# Altium footprint library Robsense_PCBLib.PcbLib: 82 footprints (part 3 of 6)
Each footprint in its own frame and in the unit in brackets; x right, y up, seen from the top. Pads: shape width x height; smd on the part's side, far side on the other; paste and mask are expansions set on the pad; w line width, h text height; cw(c..) or ccw(c..) is an arc to the next point about the centre after c.
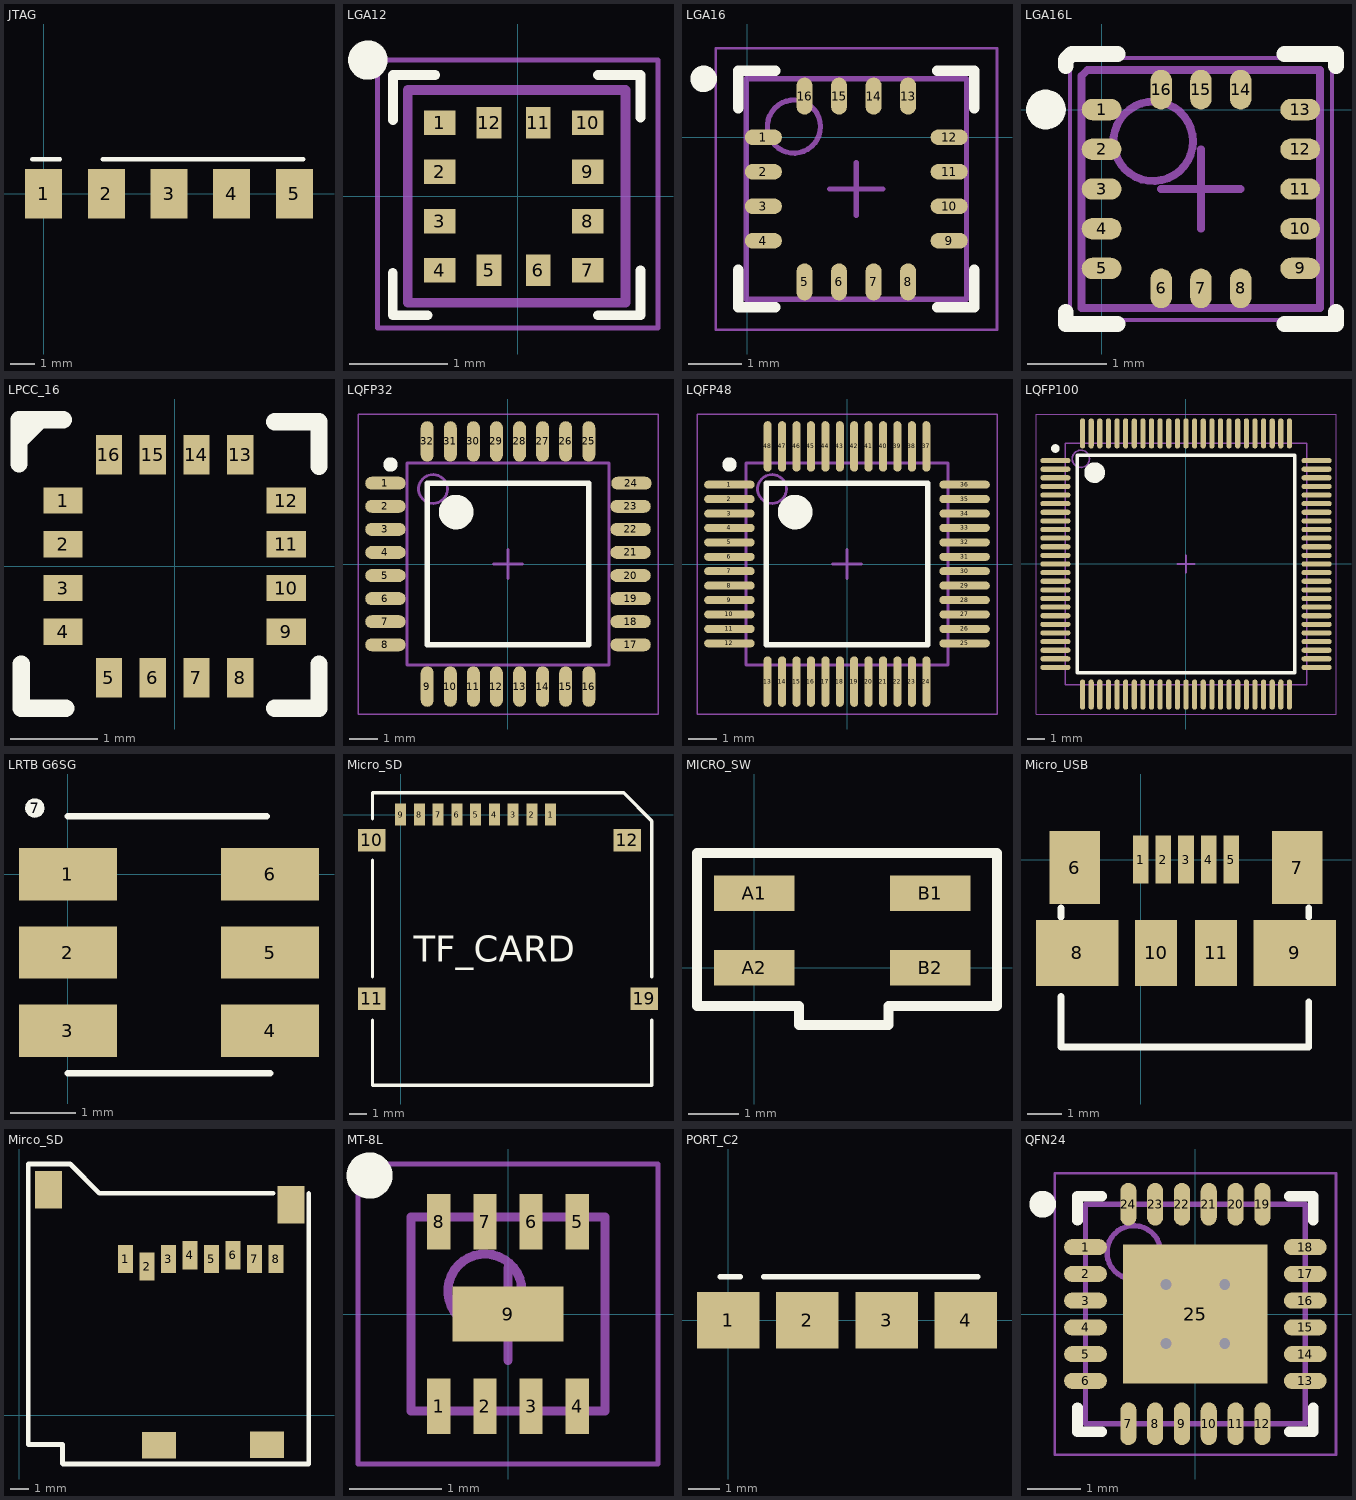
[diagram p2: the footprints below, top view; thin cyan lines are the x and y axes]

## JTAG [mm]
pads (5):
  rect 1.5x2 smd mask+0.08: 1(0,0) 2(2.54,0) 3(5.08,0) 4(7.62,0) 5(10.16,0)
Top Overlay:
  lines w0.178: -0.457,1.397 0.66,1.397 ; 2.388,1.397 10.516,1.397

## LGA12 [mm]
pads (12):
  rect 0.32x0.25 smd mask+0.08: 1(-0.792,0.749) 2(-0.792,0.249) 3(-0.792,-0.251) 4(-0.792,-0.751) 7(0.708,-0.751) 8(0.708,-0.251) 9(0.708,0.249) 10(0.708,0.749)
  rect 0.25x0.32 smd mask+0.08: 5(-0.292,-0.751) 6(0.208,-0.751) 11(0.208,0.749) 12(-0.292,0.749)
Top Overlay:
  circle w0.2: c-1.522,1.384 r0.1
  lines w0.1: -1.27,-0.775 -1.27,-1.206 -0.914,-1.206 ; -1.267,0.775 -1.267,1.232 -0.838,1.232 ; 0.813,-1.206 1.245,-1.206 1.245,-0.749 ; 0.813,1.232 1.245,1.232 1.245,0.8
Mechanical 13:
  lines w0.1: -1.117,-1.079 -1.117,1.08 1.092,1.08 1.092,-1.079 -1.117,-1.079
Mechanical 15:
  lines w0.05: -1.422,-1.333 -1.422,1.384 1.422,1.384 1.422,-1.333 -1.422,-1.333
3D body: height 1, standoff 0.2, extent -1.105,-1.105 1.105,1.054

## LGA16 [mm] "QFN, 16-Leads, Body 4.00x4.00mm, Pitch 0.65mm, IPC Medium Density"
height 1
pads (16):
  oval 0.7x0.3 smd mask+0.08: 1(0.3,0) 2(0.3,-0.65) 3(0.3,-1.3) 4(0.3,-1.95) 9(3.8,-1.95) 10(3.8,-1.3) 11(3.8,-0.65) 12(3.8,0)
  oval 0.3x0.7 smd mask+0.08: 5(1.075,-2.725) 6(1.725,-2.725) 7(2.375,-2.725) 8(3.025,-2.725) 13(3.025,0.775) 14(2.375,0.775) 15(1.725,0.775) 16(1.075,0.775)
Top Overlay:
  circle w0.25: c-0.825,1.1 r0.125
  lines w0.2: -0.175,-2.5 -0.175,-3.2 0.525,-3.2 ; -0.175,0.55 -0.175,1.25 0.525,1.25 ; 3.575,-3.2 4.275,-3.2 4.275,-2.5 ; 3.575,1.25 4.275,1.25 4.275,0.55
Mechanical 13:
  circle w0.1: c0.875,0.2 r0.5
  lines w0.1: -0.025,-3.05 -0.025,1.1 4.125,1.1 4.125,-3.05 -0.025,-3.05
Mechanical 15:
  lines w0.05: -0.6,-3.625 -0.6,1.675 4.7,1.675 4.7,-3.625 -0.6,-3.625
  lines w0.1: 1.55,-0.975 2.55,-0.975 ; 2.05,-1.475 2.05,-0.475
3D body: height 1, standoff 0.2, extent -0.025,-3.05 4.125,1.1

## LGA16L [mm] "LCC, 16-Pins, Body 3.00x3.00mmx1.00mm, Pitch 0.50mm, IPC Medium Density"
height 1
pads (16):
  oval 0.5x0.27 smd mask+0.08: 1(0,0) 2(0,-0.5) 3(0,-1) 4(0,-1.5) 5(0,-2) 9(2.5,-2) 10(2.5,-1.5) 11(2.5,-1) 12(2.5,-0.5) 13(2.5,0)
  oval 0.27x0.5 smd mask+0.08: 6(0.75,-2.25) 7(1.25,-2.25) 8(1.75,-2.25) 14(1.75,0.25) 15(1.25,0.25) 16(0.75,0.25)
Top Overlay:
  circle w0.25: c-0.7,0 r0.125
  lines w0.2: -0.45,-2.55 -0.45,-2.7 0.2,-2.7 ; -0.45,0.55 -0.45,0.625 -0.375,0.7 0.2,0.7 ; 2.3,-2.7 2.95,-2.7 2.95,-2.55 ; 2.3,0.7 2.95,0.7 2.95,0.55
Mechanical 13:
  circle w0.1: c0.65,-0.4 r0.5
  lines w0.1: -0.25,-2.5 2.75,-2.5 2.75,0.5 -0.175,0.5 -0.25,0.425 -0.25,-2.5
Mechanical 15:
  lines w0.05: -0.4,-2.65 2.9,-2.65 2.9,0.65 -0.4,0.65 -0.4,-2.65
  lines w0.1: 0.75,-1 1.75,-1 ; 1.25,-1.5 1.25,-0.5
3D body: height 1, standoff 0, extent -0.25,-2.5 2.75,0.5

## LPCC_16 [mm]
pads (16):
  rect 0.45x0.3 smd mask+0.08: 1(-1.275,0.75) 2(-1.275,0.25) 3(-1.275,-0.25) 4(-1.275,-0.75) 9(1.275,-0.75) 10(1.275,-0.25) 11(1.275,0.25) 12(1.275,0.75)
  rect 0.3x0.45 smd mask+0.08: 5(-0.75,-1.275) 6(-0.25,-1.275) 7(0.25,-1.275) 8(0.75,-1.275) 13(0.75,1.275) 14(0.25,1.275) 15(-0.25,1.275) 16(-0.75,1.275)
Top Overlay:
  lines w0.15: -1.753,1.422 -1.524,1.651 -1.524,1.676
  lines w0.2: -1.778,1.168 -1.778,1.676 -1.27,1.676 ; -1.753,-1.118 -1.753,-1.626 -1.245,-1.626 ; 1.143,-1.626 1.651,-1.626 1.651,-1.118 ; 1.143,1.651 1.651,1.651 1.651,1.143

## LQFP32 [mm]
pads (32):
  oval 1.4x0.45 smd mask+0.08: 1(-4.25,2.8) 2(-4.25,2) 3(-4.25,1.2) 4(-4.25,0.4) 5(-4.25,-0.4) 6(-4.25,-1.2) 7(-4.25,-2) 8(-4.25,-2.8) 17(4.25,-2.8) 18(4.25,-2) 19(4.25,-1.2) 20(4.25,-0.4) 21(4.25,0.4) 22(4.25,1.2) 23(4.25,2) 24(4.28,2.8)
  oval 0.45x1.4 smd mask+0.08: 9(-2.8,-4.25) 10(-2,-4.25) 11(-1.2,-4.25) 12(-0.4,-4.25) 13(0.4,-4.25) 14(1.2,-4.25) 15(2,-4.25) 16(2.8,-4.25) 25(2.8,4.25) 26(2,4.25) 27(1.2,4.25) 28(0.4,4.25) 29(-0.4,4.25) 30(-1.2,4.25) 31(-2,4.25) 32(-2.8,4.25)
Top Overlay:
  circle w0.6: c-1.8,1.8 r0.3
  circle w0.25: c-4.075,3.45 r0.125
  lines w0.2: -2.8,-2.8 2.8,-2.8 2.8,2.8 -2.8,2.8 -2.8,-2.8
Mechanical 13:
  circle w0.1: c-2.6,2.6 r0.5
  lines w0.1: -3.5,-3.5 3.5,-3.5 3.5,3.5 -3.5,3.5 -3.5,-3.5
Mechanical 15:
  lines w0.05: -5.2,-5.2 5.2,-5.2 5.2,5.2 -5.2,5.2 -5.2,-5.2
  lines w0.1: -0.5,0 0.5,0 ; 0,-0.5 0,0.5
3D body: height 1.5, standoff 0.1, extent -3.5,-3.5 3.5,3.5

## LQFP48 [mm] "TSQFP, 48-Leads, Body 7.00x7.00mm, Pitch 0.50mm, IPC Medium Density"
height 1.5
pads (48):
  oval 1.75x0.28 smd mask+0.08: 1(-4.075,2.75) 2(-4.075,2.25) 3(-4.075,1.75) 4(-4.075,1.25) 5(-4.075,0.75) 6(-4.075,0.25) 7(-4.075,-0.25) 8(-4.075,-0.75) 9(-4.075,-1.25) 10(-4.075,-1.75) 11(-4.075,-2.25) 12(-4.075,-2.75) 25(4.075,-2.75) 26(4.075,-2.25) 27(4.075,-1.75) 28(4.075,-1.25) 29(4.075,-0.75) 30(4.075,-0.25) 31(4.075,0.25) 32(4.075,0.75) 33(4.075,1.25) 34(4.075,1.75) 35(4.075,2.25) 36(4.075,2.75)
  oval 0.28x1.75 smd mask+0.08: 13(-2.75,-4.075) 14(-2.25,-4.075) 15(-1.75,-4.075) 16(-1.25,-4.075) 17(-0.75,-4.075) 18(-0.25,-4.075) 19(0.25,-4.075) 20(0.75,-4.075) 21(1.25,-4.075) 22(1.75,-4.075) 23(2.25,-4.075) 24(2.75,-4.075) 37(2.75,4.075) 38(2.25,4.075) 39(1.75,4.075) 40(1.25,4.075) 41(0.75,4.075) 42(0.25,4.075) 43(-0.25,4.075) 44(-0.75,4.075) 45(-1.25,4.075) 46(-1.75,4.075) 47(-2.25,4.075) 48(-2.75,4.075)
Top Overlay:
  circle w0.6: c-1.8,1.8 r0.3
  circle w0.25: c-4.075,3.45 r0.125
  lines w0.2: -2.8,-2.8 2.8,-2.8 2.8,2.8 -2.8,2.8 -2.8,-2.8
Mechanical 13:
  circle w0.1: c-2.6,2.6 r0.5
  lines w0.1: -3.5,-3.5 3.5,-3.5 3.5,3.5 -3.5,3.5 -3.5,-3.5
Mechanical 15:
  lines w0.05: -5.2,-5.2 5.2,-5.2 5.2,5.2 -5.2,5.2 -5.2,-5.2
  lines w0.1: -0.5,0 0.5,0 ; 0,-0.5 0,0.5
3D body: height 1.5, standoff 0.1, extent -3.5,-3.5 3.5,3.5

## LQFP100 [mm] "TSQFP, 100-Leads, Body 14.00x14.00mm, Pitch 0.50mm, IPC Medium Density"
height 1.6
pads (100):
  oval 1.75x0.3 smd mask+0.08: 1(-7.575,6) 2(-7.575,5.5) 3(-7.575,5) 4(-7.575,4.5) 5(-7.575,4) 6(-7.575,3.5) 7(-7.575,3) 8(-7.575,2.5) 9(-7.575,2) 10(-7.575,1.5) 11(-7.575,1) 12(-7.575,0.5) 13(-7.575,0) 14(-7.575,-0.5) 15(-7.575,-1) 16(-7.575,-1.5) 17(-7.575,-2) 18(-7.575,-2.5) 19(-7.575,-3) 20(-7.575,-3.5) 21(-7.575,-4) 22(-7.575,-4.5) 23(-7.575,-5) 24(-7.575,-5.5) 25(-7.575,-6) 51(7.575,-6) 52(7.575,-5.5) 53(7.575,-5) 54(7.575,-4.5) 55(7.575,-4) 56(7.575,-3.5) 57(7.575,-3) 58(7.575,-2.5) 59(7.575,-2) 60(7.575,-1.5) 61(7.575,-1) 62(7.575,-0.5) 63(7.575,0) 64(7.575,0.5) 65(7.575,1) 66(7.575,1.5) 67(7.575,2) 68(7.575,2.5) 69(7.575,3) 70(7.575,3.5) 71(7.575,4) 72(7.575,4.5) 73(7.575,5) 74(7.575,5.5) 75(7.575,6)
  oval 0.3x1.75 smd mask+0.08: 26(-6,-7.575) 27(-5.5,-7.575) 28(-5,-7.575) 29(-4.5,-7.575) 30(-4,-7.575) 31(-3.5,-7.575) 32(-3,-7.575) 33(-2.5,-7.575) 34(-2,-7.575) 35(-1.5,-7.575) 36(-1,-7.575) 37(-0.5,-7.575) 38(0,-7.575) 39(0.5,-7.575) 40(1,-7.575) 41(1.5,-7.575) 42(2,-7.575) 43(2.5,-7.575) 44(3,-7.575) 45(3.5,-7.575) 46(4,-7.575) 47(4.5,-7.575) 48(5,-7.575) 49(5.5,-7.575) 50(6,-7.575) 76(6,7.575) 77(5.5,7.575) 78(5,7.575) 79(4.5,7.575) 80(4,7.575) 81(3.5,7.575) 82(3,7.575) 83(2.5,7.575) 84(2,7.575) 85(1.5,7.575) 86(1,7.575) 87(0.5,7.575) 88(0,7.575) 89(-0.5,7.575) 90(-1,7.575) 91(-1.5,7.575) 92(-2,7.575) 93(-2.5,7.575) 94(-3,7.575) 95(-3.5,7.575) 96(-4,7.575) 97(-4.5,7.575) 98(-5,7.575) 99(-5.5,7.575) 100(-6,7.575)
Top Overlay:
  circle w0.25: c-7.575,6.7 r0.125
  circle w0.6: c-5.3,5.3 r0.3
  lines w0.2: -6.3,-6.3 -6.3,6.3 6.3,6.3 6.3,-6.3 -6.3,-6.3
Mechanical 13:
  circle w0.1: c-6.1,6.1 r0.5
  lines w0.1: -7,-7 -7,7 7,7 7,-7 -7,-7
Mechanical 15:
  lines w0.05: -8.7,-8.7 -8.7,8.7 8.7,8.7 8.7,-8.7 -8.7,-8.7
  lines w0.1: -0.5,0 0.5,0 ; 0,-0.5 0,0.5
3D body: height 1.6, standoff 0.15, extent -7,-7 7,7

## LRTB G6SG [mm]
pads (7):
  rect 1.5x0.8 smd mask+0.08: 1(0,0) 2(0,-1.2) 3(0,-2.4) 4(3.1,-2.4) 5(3.1,-1.2) 6(3.1,0)
  round 0.3 on Top Overlay: 7(-0.508,1.016)
Top Overlay:
  lines w0.1: 0,-3.048 3.099,-3.048 ; 0,0.889 3.048,0.889

## Micro_SD [mm]
pads (13):
  rect 0.64x1.3 smd mask+0.08: 1(8.8,0) 2(7.7,0) 3(6.6,0) 4(5.5,0) 5(4.4,0) 6(3.3,0) 7(2.2,0) 8(1.1,0) 9(0,0)
  rect 1.6x1.32 smd mask+0.08: 10(-1.7,-1.5) 11(-1.7,-10.8) 12(13.3,-1.5) 19(14.3,-10.8)
Top Overlay:
  lines w0.2: -1.651,-12.065 -1.651,-15.875 14.732,-15.875 14.732,-12.065 ; -1.651,-9.525 -1.651,-2.667 ; -1.651,-0.254 -1.651,1.27 13.081,1.27 14.732,-0.381 14.732,-9.525
  text "TF_CARD" at 0.762,-8.636 h1.52

## MICRO_SW [mm]
pads (4):
  rect 1.6x0.7 smd mask+0.08: A1(0,1.48) A2(0,0) B1(3.5,1.48) B2(3.5,0)
Top Overlay:
  lines w0.2: -1.143,-0.762 0.889,-0.762 0.889,-1.143 2.667,-1.143 2.667,-0.762 4.826,-0.762 4.826,2.286 -1.143,2.286 -1.143,-0.762

## Micro_USB [mm]
pads (11):
  rect 0.45x1.38 smd mask+0.08: 1(0,0) 2(0.65,0) 3(1.3,0) 4(1.95,0) 5(2.6,0)
  rect 1.45x2.1 smd mask+0.08: 6(-1.9,-0.23) 7(4.5,-0.23)
  rect 2.375x1.9 smd mask+0.08: 8(-1.821,-2.68) 9(4.421,-2.68)
  rect 1.2x1.9 smd mask+0.08: 10(0.439,-2.68) 11(2.164,-2.68)
Top Overlay:
  lines w0.2: -2.286,-3.937 -2.286,-5.385 4.826,-5.385 4.826,-4.089 ; -2.286,-1.651 -2.286,-1.397 ; 4.826,-1.651 4.826,-1.397

## Mirco_SD [mm]
pads (12):
  rect 0.8x1.5 smd mask+0.08: 1(5.664,8.306) 2(6.807,7.906) 3(7.95,8.306) 4(9.093,8.506) 5(10.236,8.306) 6(11.379,8.506) 7(12.522,8.306) 8(13.665,8.306)
  rect 1.45x2 smd mask+0.08: ""(1.564,12.001) ""(14.453,11.201)
  rect 1.8x1.4 smd mask+0.08: ""(7.438,-1.6) ""(13.17,-1.575)
Top Overlay:
  lines w0.2: 2.311,-2.565 2.337,-2.591
  lines w0.254: 2.311,-2.565 2.311,-1.549 0.483,-1.549 0.483,13.36 2.718,13.36 4.267,11.811 13.513,11.811 ; 2.337,-2.591 15.392,-2.591 15.392,11.786

## MT-8L [mm]
height 0.5
pads (9):
  rect 0.25x0.6 smd mask+0.08: 1(-0.75,-1) 2(-0.25,-1) 3(0.25,-1) 4(0.75,-1) 5(0.75,1) 6(0.25,1) 7(-0.25,1) 8(-0.75,1)
  rect 1.2x0.6 smd mask+0.08: 9(0,0)
Top Overlay:
  circle w0.25: c-1.5,1.5 r0.125
Mechanical 13:
  circle w0.1: c-0.25,0.25 r0.4
  lines w0.1: -1.05,-1.05 -1.05,1.05 1.05,1.05 1.05,-1.05 -1.05,-1.05
Mechanical 15:
  lines w0.05: -1.625,-1.625 -1.625,1.625 1.625,1.625 1.625,-1.625 -1.625,-1.625
  lines w0.1: -0.5,0 0.5,0 ; 0,-0.5 0,0.5
3D body: height 0.5, standoff 0.05, extent -1.05,-1.05 1.05,1.05

## PORT_C2 [mm]
pads (4):
  rect 2x1.8 smd mask+0.08: 1(0,0) 2(2.54,0) 3(5.08,0) 4(7.62,0)
Top Overlay:
  lines w0.178: -0.254,1.397 0.381,1.397 ; 1.143,1.397 8.001,1.397

## QFN24 [mm] "QFN, 24-Leads, Body 4.00x4.00mm, Pitch 0.50mm, Thermal Pad 2.60x2.70mm, IPC Medium Density"
height 0.9
pads (25):
  oval 0.8x0.3 smd mask+0.08: 1(-2.05,1.25) 2(-2.05,0.75) 3(-2.05,0.25) 4(-2.05,-0.25) 5(-2.05,-0.75) 6(-2.05,-1.25) 13(2.05,-1.25) 14(2.05,-0.75) 15(2.05,-0.25) 16(2.05,0.25) 17(2.05,0.75) 18(2.05,1.25)
  oval 0.3x0.8 smd mask+0.08: 7(-1.25,-2.05) 8(-0.75,-2.05) 9(-0.25,-2.05) 10(0.25,-2.05) 11(0.75,-2.05) 12(1.25,-2.05) 19(1.25,2.05) 20(0.75,2.05) 21(0.25,2.05) 22(-0.25,2.05) 23(-0.75,2.05) 24(-1.25,2.05)
  rect 2.7x2.6 smd mask+0.08: 25(0,0)
via -0.55,0.55 diameter 0.5 hole 0.2
via 0.55,0.55 diameter 0.5 hole 0.2
via -0.55,-0.55 diameter 0.5 hole 0.2
via 0.55,-0.55 diameter 0.5 hole 0.2
Top Overlay:
  circle w0.25: c-2.85,2.05 r0.125
  lines w0.2: -2.2,-1.75 -2.2,-2.2 -1.75,-2.2 ; -2.2,1.75 -2.2,2.2 -1.75,2.2 ; 1.75,-2.2 2.2,-2.2 2.2,-1.75 ; 1.75,2.2 2.2,2.2 2.2,1.75
Mechanical 13:
  circle w0.1: c-1.15,1.15 r0.5
  lines w0.1: -2.05,-2.05 -2.05,2.05 2.05,2.05 2.05,-2.05 -2.05,-2.05
Mechanical 15:
  lines w0.05: -2.625,-2.625 -2.625,2.625 2.625,2.625 2.625,-2.625 -2.625,-2.625
  lines w0.1: -0.5,0 0.5,0 ; 0,-0.5 0,0.5
3D body: height 0.9, standoff 0.02, extent -2.05,-2.05 2.05,2.05